# EAGLE library part SN75240PWG4 (library MDB_HOME_kap)
USB Port Transient Suppressors
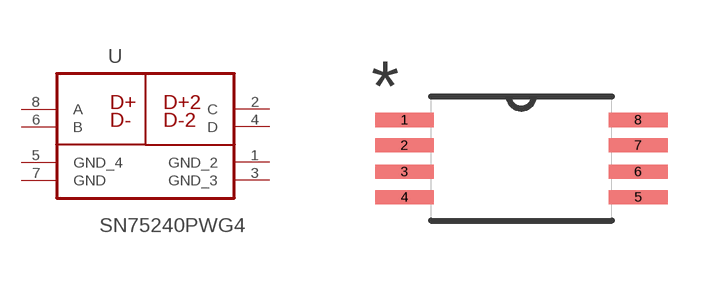
[diagram p21: symbol with the pads of SOP65P640X120-8N; footprint SOP65P640X120-8N]

Designator prefix U

## SN75240PWG4 (MPN: SN75240PWG4; OC_FARNELL: 1207275; OC_NEWARK: 24M7629; PACKAGE: TSSOP-8; SUPPLIER: Texas Instruments)  [SOP65P640X120-8N]
1  GND_2  pas
2  C  pas
3  GND_3  pas
4  D  pas
5  GND_4  pas
6  B  pas
7  GND  pas
8  A  pas

## Footprint SOP65P640X120-8N (pad centres in mm)
smd 1.473 x 0.356: 1 -2.921,0.965; 2 -2.921,0.33; 3 -2.921,-0.33; 4 -2.921,-0.965; 5 2.921,-0.965; 6 2.921,-0.33; 7 2.921,0.33; 8 2.921,0.965